# EAGLE library part 444BD21025816 (library Wurth_Elektronik_Electromechanic_Switch_rev16b)
6.8x4.5 mm SMD illuminated WS-TASL, 6 pins <http://katalog.we-online.de/media/images/v2/Family_WS_TLS_Illuminated_444xx21025816_pf2.jpg> Details see: http://katalog.we-online.de/en/em/TASL_6_8X4_5_SMD 2015 (C) Wurth Elektronik
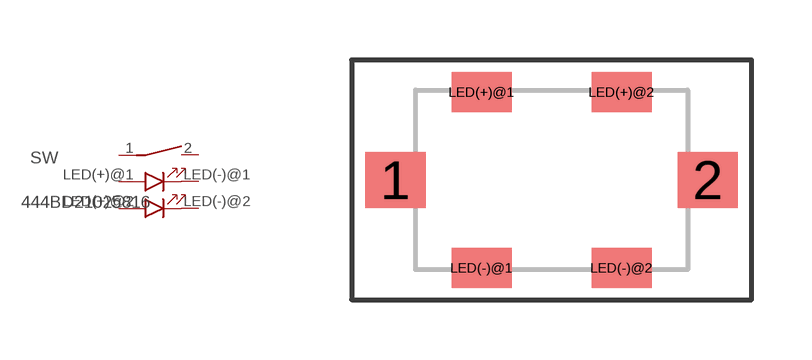
[diagram p146: symbol with the pads of 444BD21025816; footprint 444BD21025816]

Designator prefix SW

## 444BD21025816  [444BD21025816]
1  1  pas
2  2  pas
LED(+)@1  LED(+)  pas
LED(+)@2  LED(+)  pas
LED(-)@1  LED(-)  pas
LED(-)@2  LED(-)  pas

## Footprint 444BD21025816 (pad centres in mm)
WS-TLS 6,8*4,5mm Tact Switch with integrated LED, SMD version, 6 pins
smd 1.5 x 1.4: 1 -3.9,0; 2 3.9,0
smd 1.5 x 1: LED(+)@1 -1.75,2.2; LED(+)@2 1.75,2.2; LED(-)@1 -1.75,-2.2; LED(-)@2 1.75,-2.2